# Altium footprint library NSDN-LOGO.PcbLib: 4 footprints
Each footprint in its own frame and in the unit in brackets; x right, y up, seen from the top. Pads: shape width x height; smd on the part's side, far side on the other; paste and mask are expansions set on the pad; w line width, h text height; cw(c..) or ccw(c..) is an arc to the next point about the centre after c.
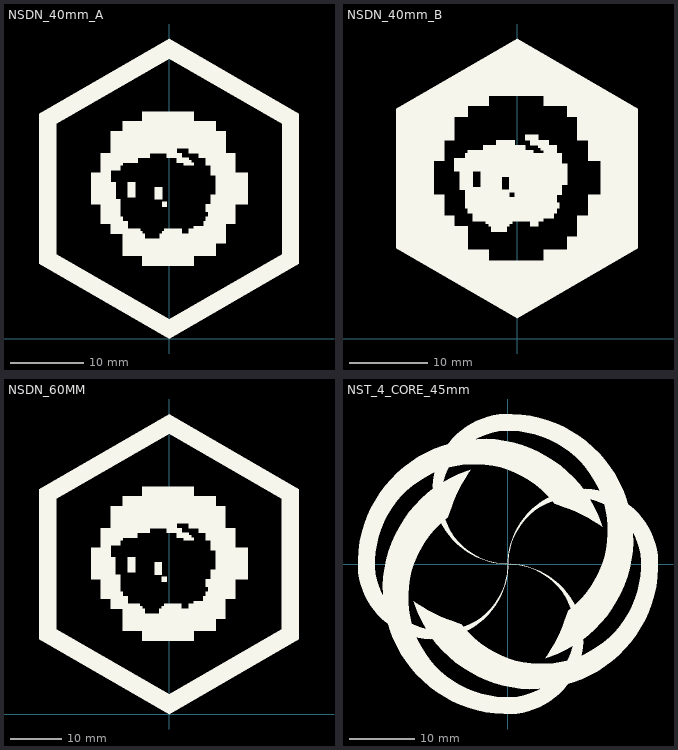
[diagram p0: the footprints below, top view; thin cyan lines are the x and y axes]

## NSDN_40mm_A [mm]
Top Layer:
  region: -17.704,10.236
Top Layer keep-out:
  region: 0,0
Top Overlay:
  region: -5.639,21.361 -4.623,21.361 -4.623,19.355 -5.639,19.355
  region: -1.956,20.701 -0.965,20.701 -0.965,19.025 -1.956,19.025
  region: -0.965,18.694 -0.305,18.694 -0.305,18.034 -0.965,18.034
  region: -9.296,22.682 -10.617,22.682 -10.617,18.364 -9.296,18.364 -9.296,15.697 -7.976,15.697 -7.976,14.351 -6.299,14.351 -6.299,11.354 -3.632,11.354 -3.632,9.982 3.378,9.982 3.378,11.354 6.375,11.354 6.375,13.03 7.696,13.03 7.696,15.697 9.042,15.697 9.017,18.364 10.693,18.364 10.693,22.682 9.042,22.682 6.375,22.352 6.375,19.685 5.69,19.685 5.69,18.364 5.029,18.364 5.029,17.348 5.359,17.348 5.359,16.688 5.029,16.688 5.029,16.027 4.699,16.027 4.699,15.367 3.378,15.367 3.378,15.011 2.692,15.011 2.692,14.351 1.702,14.351 1.702,15.011 -0.635,15.011 -0.635,14.681 -0.965,14.681 -0.965,14.351 -1.295,14.351 -1.295,13.691 -3.302,13.691 -3.302,14.351 -3.632,14.351 -3.632,14.681 -3.962,14.681 -3.962,15.011 -5.639,15.011 -5.639,16.027 -6.299,16.027 -6.299,16.688 -6.629,16.688 -6.629,19.025 -7.29,19.025 -7.29,21.361 -7.976,21.361 -7.976,23.012
  region: -9.296,22.682 -9.296,25.349 -7.976,25.349 -7.976,28.346 -6.299,28.346 -6.299,29.693 -3.632,29.693 -3.632,30.988 3.378,30.988 3.378,29.693 6.375,29.693 6.375,28.346 7.696,28.346 7.696,25.349 9.042,25.349 9.042,22.682 6.375,22.352 5.69,22.352 5.69,23.698 5.029,23.698 5.029,24.689 4.039,24.689 4.039,25.349 2.692,25.349 2.692,26.035 1.041,26.035 1.041,25.349 1.702,25.349 1.702,24.689 2.692,24.689 2.692,24.359 3.023,24.359 3.035,24.028 3.378,24.028 3.378,23.698 2.032,23.698 2.032,24.028 1.041,24.028 1.041,24.689 -0.305,24.689 -0.305,25.349 -2.642,25.349 -2.642,24.689 -4.293,24.689 -4.293,24.028 -6.299,24.028 -6.299,23.698 -6.629,23.698 -6.629,23.012 -7.976,23.012
  region: -17.704,10.236 -17.729,30.683 0,40.894 0,38.227 -15.392,29.337 -15.392,11.557
  region: 0,0 -17.704,10.236 -15.392,11.557 0,2.667 15.418,11.557 17.704,10.236
  region: 0,40.894 17.704,30.683 17.704,10.236 15.418,11.557 15.418,29.337 0,38.227

## NSDN_40mm_B [mm]
Top Layer:
  region: -2.642,26.594
  region: -17.704,10.236
Top Layer keep-out:
  region: 0,0
Top Overlay:
  region: -7.302,21.361 -7.302,19.025 -6.629,19.025 -6.629,16.688 -6.299,16.688 -6.299,16.027 -5.639,16.027 -5.639,15.024 -3.962,15.024 -3.962,14.681 -3.632,14.681 -3.632,14.351 -3.302,14.351 -3.302,13.691 -1.295,13.691 -1.295,14.351 -0.965,14.351 -0.965,14.681 -0.635,14.681 -0.635,15.011 1.689,15.011 1.689,14.351 2.705,14.351 2.705,15.024 3.365,15.024 3.365,15.367 4.699,15.367 4.699,16.027 5.029,16.027 5.029,16.688 5.359,16.688 5.359,17.348 5.029,17.348 5.029,18.364 -0.305,18.364 -0.305,18.034 -0.965,18.034 -0.965,19.025 -1.956,19.025 -1.956,20.701 -4.623,20.701 -4.623,19.355 -5.639,19.355 -5.639,21.361
  region: -7.976,21.361 -7.976,23.012 -6.629,23.012 -6.629,23.698 -6.299,23.698 -6.299,24.028 -4.293,24.028 -4.293,24.689 -2.642,24.689 -2.642,25.349 -0.305,25.349 -0.305,24.689 1.041,24.689 1.041,24.028 2.032,24.028 2.032,23.698 3.378,23.698 3.378,24.028 3.023,24.028 3.023,24.359 2.692,24.359 2.692,24.689 1.689,24.689 1.689,25.349 1.041,25.349 1.041,26.035 2.692,26.035 2.692,25.349 4.039,25.349 4.039,24.689 5.029,24.689 5.029,23.698 5.69,23.698 5.69,22.352 6.375,22.352 6.375,19.685 5.69,19.685 5.69,18.364 -0.305,18.364 -0.305,18.694 -0.965,18.694 -0.965,20.701 -4.623,20.701 -4.623,21.361
  region: 0,2.667 15.392,11.557 15.392,29.337 0,38.227 0,30.988 3.378,30.988 3.378,29.693 6.375,29.693 6.375,28.346 7.696,28.346 7.696,25.349 9.042,25.349 9.042,22.682 10.693,22.682 10.693,18.364 9.042,18.364 9.042,15.697 7.696,15.697 7.696,13.03 6.375,13.03 6.375,11.354 3.378,11.354 3.378,9.982 0,9.982
  region: 0,2.667 -15.392,11.557 -15.392,29.337 0,38.227 0,30.988 -3.632,30.988 -3.632,29.693 -6.299,29.693 -6.299,28.346 -7.976,28.346 -7.976,25.349 -9.296,25.349 -9.296,22.682 -10.643,22.682 -10.643,18.364 -9.296,18.364 -9.296,15.697 -7.976,15.697 -7.976,14.351 -6.299,14.351 -6.299,11.354 -3.632,11.354 -3.632,9.982 0,9.982
Top Solder:
  region: 0,2.667 -15.392,11.557 -15.392,29.337 0,38.227 0,30.988 -3.632,30.988 -3.632,29.693 -6.299,29.693 -6.299,28.346 -7.976,28.346 -7.976,25.349 -9.296,25.349 -9.296,22.682 -10.643,22.682 -10.643,18.364 -9.296,18.364 -9.296,15.697 -7.976,15.697 -7.976,14.351 -6.299,14.351 -6.299,11.354 -3.632,11.354 -3.632,9.982 0,9.982
  region: -7.976,21.361 -7.976,23.012 -6.629,23.012 -6.629,23.698 -6.299,23.698 -6.299,24.028 -4.293,24.028 -4.293,24.689 -2.642,24.689 -2.642,25.349 -0.305,25.349 -0.305,24.689 1.041,24.689 1.041,24.028 2.032,24.028 2.032,23.698 3.378,23.698 3.378,24.028 3.023,24.028 3.023,24.359 2.692,24.359 2.692,24.689 1.689,24.689 1.689,25.349 1.041,25.349 1.041,26.035 2.692,26.035 2.692,25.349 4.039,25.349 4.039,24.689 5.029,24.689 5.029,23.698 5.69,23.698 5.69,22.352 6.375,22.352 6.375,19.685 5.69,19.685 5.69,18.364 -0.305,18.364 -0.305,18.694 -0.965,18.694 -0.965,20.701 -4.623,20.701 -4.623,21.361
  region: -7.302,21.361 -7.302,19.025 -6.629,19.025 -6.629,16.688 -6.299,16.688 -6.299,16.027 -5.639,16.027 -5.639,15.024 -3.962,15.024 -3.962,14.681 -3.632,14.681 -3.632,14.351 -3.302,14.351 -3.302,13.691 -1.295,13.691 -1.295,14.351 -0.965,14.351 -0.965,14.681 -0.635,14.681 -0.635,15.011 1.689,15.011 1.689,14.351 2.705,14.351 2.705,15.024 3.365,15.024 3.365,15.367 4.699,15.367 4.699,16.027 5.029,16.027 5.029,16.688 5.359,16.688 5.359,17.348 5.029,17.348 5.029,18.364 -0.305,18.364 -0.305,18.034 -0.965,18.034 -0.965,19.025 -1.956,19.025 -1.956,20.701 -4.623,20.701 -4.623,19.355 -5.639,19.355 -5.639,21.361
  region: 0,2.667 15.392,11.557 15.392,29.337 0,38.227 0,30.988 3.378,30.988 3.378,29.693 6.375,29.693 6.375,28.346 7.696,28.346 7.696,25.349 9.042,25.349 9.042,22.682 10.693,22.682 10.693,18.364 9.042,18.364 9.042,15.697 7.696,15.697 7.696,13.03 6.375,13.03 6.375,11.354 3.378,11.354 3.378,9.982 0,9.982

## NSDN_60MM [mm]
Top Overlay:
  region: -25.298,43.815 -25.298,14.605 -21.996,16.51 -21.996,16.891 -21.996,41.91 0,54.61 0,58.42
  region: 0,58.42 25.298,43.815 25.298,14.605 21.996,16.51 21.996,41.91 0,54.61
  region: -21.996,16.51 -25.298,14.605 0,0 25.298,14.605 21.996,16.51 0,3.81
  region: -15.189,32.41 -13.284,32.41 -11.379,32.893 -11.379,30.505 -10.439,30.505 -10.439,27.153 -15.189,26.213
  region: -10.439,27.153 -15.189,26.213 -13.284,26.213 -13.284,22.403 -11.379,22.403 -11.379,20.498 -9.017,20.498 -9.017,16.231 -5.207,16.231 -5.207,20.98 -5.664,20.98 -5.664,21.438 -6.655,21.438 -8.052,21.438 -8.052,22.885 -9.017,22.885 -9.017,23.825 -9.474,23.825 -9.474,27.153
  region: -5.207,20.498 -5.207,14.249 4.801,14.249 4.801,16.205 9.093,16.205 9.093,18.593 10.998,18.593 10.998,22.403 12.903,22.403 12.903,26.213 15.291,26.213 15.291,32.41 12.903,32.41 9.093,31.928 9.093,28.118 8.128,28.118 8.128,26.213 7.188,26.213 7.188,24.79 7.671,24.79 7.671,23.851 7.188,23.851 7.188,22.885 6.706,22.885 6.706,21.92 4.801,21.92 4.801,21.45 3.861,21.45 3.861,20.498 2.413,20.498 2.413,21.45 -0.914,21.45 -0.914,20.98 -1.397,20.98 -1.397,20.498 -1.854,20.498 -1.854,19.533 -4.724,19.533 -4.724,20.498
  region: -13.259,32.512
  region: -13.284,32.41 -13.284,36.22 -11.379,36.22 -11.379,40.488 -9.017,40.488 -9.017,42.393 -5.207,42.393 -5.207,44.247 4.801,44.247 4.801,42.393 9.093,42.393 9.093,40.488 10.998,40.488 10.998,36.22 12.903,36.22 12.903,32.41 9.093,31.928 8.128,31.928 8.128,33.833 7.188,33.833 7.188,35.255 5.766,35.255 5.766,36.22 3.861,36.22 3.861,37.16 1.473,37.16 1.473,36.22 2.438,36.22 2.438,35.281 3.861,35.281 3.861,34.798 4.331,34.798 4.331,34.315 4.826,34.315 4.826,33.833 2.896,33.833 2.896,34.315 1.473,34.315 1.473,35.255 -0.432,35.255 -0.432,36.22 -3.759,36.22 -3.759,35.255 -6.147,35.255 -6.147,34.315 -9.017,34.315 -9.017,33.833 -9.474,33.833 -9.474,32.893 -11.379,32.893
  region: -8.052,30.505 -8.052,27.635 -6.604,27.635 -6.604,30.505
  region: -2.819,29.566 -2.819,27.165 -1.372,27.165 -1.372,29.566
  region: -1.397,26.695 -1.397,25.73 -0.432,25.73 -0.432,26.695

## NST_4_CORE_45mm [mm]
Top Overlay:
  drawing of 8 lines, arcs and shapes, not listed